# EAGLE library part 61801525123 (library 61801525123)
Wurth Elektronik 618 Series 2.77 mm, 2.84 mm Pitch 15 Way Straight Through Hole Mount PCB D-sub Connector, Socket Source: Datasheet <https://katalog.we-online.de/em/datasheet/61801525123.pdf>
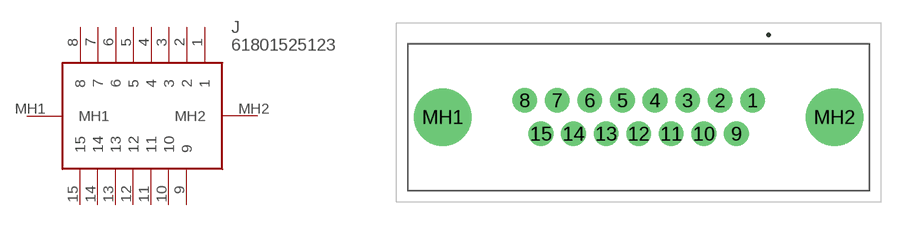
[diagram p0: symbol with the pads of 61801525123; footprint 61801525123]

Designator prefix J

## 61801525123 (Description: Wurth Elektronik 618 Series 2.77 mm, 2.84 mm Pitch 15 Way Straight Through Hole Mount PCB D-sub Connector, Socket; Height: 12.25mm; Manufacturer_Name: Wurth Elektronik; Manufacturer_Part_Number: 61801525123; Mouser_Part_Number: 710-61801525123; Mouser_Price-Stock: https://www.mouser.co.uk/ProductDetail/Wurth-Elektronik/61801525123?qs=ZtY9WdtwX55glhDCqAc0Jg%3D%3D)  [61801525123]
1  1
2  2
3  3
4  4
5  5
6  6
7  7
8  8
9  9
10  10
11  11
12  12
13  13
14  14
15  15
MH1  MH1
MH2  MH2

## Footprint 61801525123 (pad centres in mm)
61801525123-1
drill 1.4 pad 2.1: 1 0,0; 2 -2.77,0; 3 -5.54,0; 4 -8.31,0; 5 -11.08,0; 6 -13.85,0; 7 -16.62,0; 8 -19.39,0; 9 -1.385,-2.84; 10 -4.155,-2.84; 11 -6.925,-2.84; 12 -9.695,-2.84; 13 -12.465,-2.84; 14 -15.235,-2.84; 15 -18.005,-2.84
drill 3.25 pad 4.875: MH1 -26.355,-1.42; MH2 6.965,-1.42